# Altium integrated library LMV7271MG.IntLib: 1 symbol
Pins are listed as number, name and electrical type; pins without a type are passive.

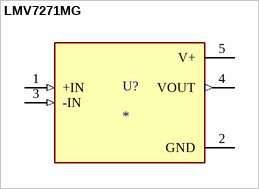
[diagram p0: symbol LMV7271MG]

## LMV7271MG
designator U?
LMV727x Single and Dual, 1.8-V Low Power Comparators With Rail-to-Rail Input; MP: LMV7271MG; Package: None; Price: None; Value: *; Availability: Unavailable
footprint SOT65P210X110-5N
pins: 1 +IN (in), 2 GND (power), 3 -IN (in), 4 VOUT (out), 5 V+ (power)